# Altium integrated library Temperature_Sensors.IntLib: 1 symbol
Pins are listed as number, name and electrical type; pins without a type are passive.

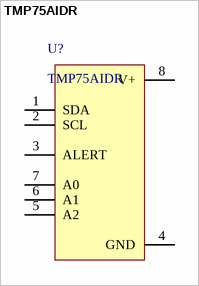
[diagram p0: symbol TMP75AIDR]

## TMP75AIDR
designator U?
1C digital temperature sensor, I2C/SMBus in industry standard LM75 form factor 8-SOIC -40 to 125; Manufacturer: Texas Instruments; Manufacturer Lifecycle Status: ACTIVE; Accuracy: 1.5%; Interface: 2-Wire, I2C, SMBus; Max Junction Temperature (Tj): 150°C; Max Supply Voltage: 5.5V; Min Supply Voltage: 2.7V; Nominal Supply Current: 410µA; Number of Bits: 12; Operating Supply Current: 85µA; Output Current: 3mA; Output Voltage: 400mV; Quiescent Current: 50µA; Resolution: 1.5B; Supplier: DigiKey; Supplier Part Number: 296-17838-1-ND; Manufacturer Part Number: TMP75AIDR; RoHS: Compliant; Category: Temperature and Humidity Sensors; Stock: 14412; Pricing: 1=0,82, 5=0,716, 10=0,68, 25=0,6356, 50=0,6054, 100=0,5779, 500=0,52264, 1000=0,5021 (USD); Ambient Temperature Range High: 125°C; Case/Package: SOIC; Contact Plating: Gold; Height: 1.75mm; Lead Free: Lead Free; Length: 4.9mm; Lifecycle Status: Production; Max Operating Temperature: 125°C; Max Supply Voltage (DC): 5.5V; Min Operating Temperature: -40°C; Min Supply Voltage (DC): 2.7V; Mounting Technology: Surface Mount; Pins: 8; Output Type: Digital; Packaging: Cut Tape; Radiation Hardening: No; REACH SVHC: No; Schedule B: 8542390000, 8542390000|8542390000|8542390000|8542390000|8542390000; Termination: SMD/SMT; Thickness: 1.58mm; Weight: 75.891673mg; Width: 3.91mm; ComponentLink1URL: https://octopart.com:443/opatz8j6/c1?t=tKo3c__LaH3tCV-7qFebeO0R4CrQzKfGAPHQrZf1ItA9pNCVme2MTHqP_iuIB8kVfXV9i36Q6tGLRcP0iaBJ-zehy2rC5rFVKBIjgkgIRdXPXaMP47Caff1K6DSTGpvHlPTS3b7VynqyBxd-zYsYUVzz8ItEYmgo9XcTBf9C9PrFTkF1-WvUDI9WcaoIHw36VGt-FQSijf8NUa46fg22CC-MpPQjtDrqRFPY5KpRveT8L1POi_xLq5-oa1UnvAsdDbxSjHLZQgQG98AOExJcxDinUZpFdydasWn7TcaSIIr51iXdHCA94Jixn-FB4DUj9AFfXv68CNRhFxDnz84EBlcOJYlyCvjWjuXKj-dyup23ZJMNdcMqvSWU2tMxWjY_5w&src-supplier=Texas+Instruments; ComponentLink1Description: https://octopart.com:443/opatz8j6/c1?t=tKo3c__LaH3tCV-7qFebeO0R4CrQzKfGAPHQrZf1ItA9pNCVme2MTHqP_iuIB8kVfXV9i36Q6tGLRcP0iaBJ-zehy2rC5rFVKBIjgkgIRdXPXaMP47Caff1K6DSTGpvHlPTS3b7VynqyBxd-zYsYUVzz8ItEYmgo9XcTBf9C9PrFTkF1-WvUDI9WcaoIHw36VGt-FQSijf8NUa46fg22CC-MpPQjtDrqRFPY5KpRveT8L1POi_xLq5-oa1UnvAsdDbxSjHLZQgQG98AOExJcxDinUZpFdydasWn7TcaSIIr51iXdHCA94Jixn-FB4DUj9AFfXv68CNRhFxDnz84EBlcOJYlyCvjWjuXKj-dyup23ZJMNdcMqvSWU2tMxWjY_5w&src-supplier=Texas+Instruments; ComponentLink2URL: https://datasheet.octopart.com:443/TMP75AIDR-Texas-Instruments-datasheet-41218099.pdf?src-supplier=Texas+Instruments; ComponentLink2Description: https://datasheet.octopart.com:443/TMP75AIDR-Texas-Instruments-datasheet-41218099.pdf?src-supplier=Texas+Instruments; ComponentLink3URL: https://datasheet.octopart.com:443/TMP75AIDR-Texas-Instruments-datasheet-38877415.pdf?src-supplier=Texas+Instruments; ComponentLink3Description: https://datasheet.octopart.com:443/TMP75AIDR-Texas-Instruments-datasheet-38877415.pdf?src-supplier=Texas+Instruments; ComponentLink4URL: https://datasheet.octopart.com:443/TMP75AIDR-Texas-Instruments-datasheet-10253671.pdf?src-supplier=Texas+Instruments; ComponentLink4Description: https://datasheet.octopart.com:443/TMP75AIDR-Texas-Instruments-datasheet-10253671.pdf?src-supplier=Texas+Instruments; ComponentLink5URL: https://sigma.octopart.com:443/49249642/technical_drawing/Texas-Instruments-TMP75AIDR.pdf?src-supplier=Texas+Instruments; ComponentLink5Description: https://sigma.octopart.com:443/49249642/technical_drawing/Texas-Instruments-TMP75AIDR.pdf?src-supplier=Texas+Instruments; ComponentLink6URL: https://datasheet.octopart.com:443/TMP75AIDR-Texas-Instruments-datasheet-149513.pdf?src-supplier=Texas+Instruments; ComponentLink6Description: https://datasheet.octopart.com:443/TMP75AIDR-Texas-Instruments-datasheet-149513.pdf?src-supplier=Texas+Instruments; ComponentLink7URL: https://datasheet.octopart.com:443/TMP75AIDR-Texas-Instruments-datasheet-150455026.pdf?src-supplier=Upverter; ComponentLink7Description: https://datasheet.octopart.com:443/TMP75AIDR-Texas-Instruments-datasheet-150455026.pdf?src-supplier=Upverter; ComponentLink8URL: https://datasheet.octopart.com:443/TMP75AIDR-Texas-Instruments-datasheet-149512.pdf?src-supplier=Mouser; ComponentLink8Description: https://datasheet.octopart.com:443/TMP75AIDR-Texas-Instruments-datasheet-149512.pdf?src-supplier=Mouser; ComponentLink9URL: https://datasheet.octopart.com:443/TMP75AIDR-Texas-Instruments-datasheet-13535012.pdf?src-supplier=element14+APAC; ComponentLink9Description: https://datasheet.octopart.com:443/TMP75AIDR-Texas-Instruments-datasheet-13535012.pdf?src-supplier=element14+APAC; ComponentLink10URL: https://datasheet.octopart.com:443/TMP75AIDR-Texas-Instruments-datasheet-11537007.pdf?src-supplier=element14+APAC; ComponentLink10Description: https://datasheet.octopart.com:443/TMP75AIDR-Texas-Instruments-datasheet-11537007.pdf?src-supplier=element14+APAC; ComponentLink11URL: https://datasheet.octopart.com:443/TMP75AIDR-Texas-Instruments-datasheet-62336639.pdf?src-supplier=element14+APAC; ComponentLink11Description: https://datasheet.octopart.com:443/TMP75AIDR-Texas-Instruments-datasheet-62336639.pdf?src-supplier=element14+APAC; ComponentLink12URL: https://datasheet.octopart.com:443/TMP75AIDR-Texas-Instruments-datasheet-62088963.pdf?src-supplier=element14+APAC; ComponentLink12Description: https://datasheet.octopart.com:443/TMP75AIDR-Texas-Instruments-datasheet-62088963.pdf?src-supplier=element14+APAC; ComponentLink13URL: https://datasheet.octopart.com:443/TMP75AIDR-Texas-Instruments-datasheet-28360622.pdf?src-supplier=element14+APAC; ComponentLink13Description: https://datasheet.octopart.com:443/TMP75AIDR-Texas-Instruments-datasheet-28360622.pdf?src-supplier=element14+APAC; ComponentLink14URL: https://datasheet.octopart.com:443/TMP75AIDR-Texas-Instruments-datasheet-101363787.pdf?src-supplier=Newark; ComponentLink14Description: https://datasheet.octopart.com:443/TMP75AIDR-Texas-Instruments-datasheet-101363787.pdf?src-supplier=Newark; ComponentLink15URL: https://datasheet.octopart.com:443/TMP75AIDR-Texas-Instruments-datasheet-21262013.pdf?src-supplier=Newark; ComponentLink15Description: https://datasheet.octopart.com:443/TMP75AIDR-Texas-Instruments-datasheet-21262013.pdf?src-supplier=Newark; ComponentLink16URL: https://datasheet.octopart.com:443/TMP75AIDR-Texas-Instruments-datasheet-100480387.pdf?src-supplier=Newark; ComponentLink16Description: https://datasheet.octopart.com:443/TMP75AIDR-Texas-Instruments-datasheet-100480387.pdf?src-supplier=Newark; ComponentLink17URL: https://datasheet.octopart.com:443/TMP75AIDR-Texas-Instruments-datasheet-31953.pdf?src-supplier=Newark; ComponentLink17Description: https://datasheet.octopart.com:443/TMP75AIDR-Texas-Instruments-datasheet-31953.pdf?src-supplier=Newark; ComponentLink18URL: https://datasheet.octopart.com:443/TMP75AIDR-Texas-Instruments-datasheet-165804655.pdf?src-supplier=LCSC; ComponentLink18Description: https://datasheet.octopart.com:443/TMP75AIDR-Texas-Instruments-datasheet-165804655.pdf?src-supplier=LCSC; ComponentLink19URL: https://datasheet.octopart.com:443/TMP75AIDR-Texas-Instruments-datasheet-159117859.pdf?src-supplier=LCSC; ComponentLink19Description: https://datasheet.octopart.com:443/TMP75AIDR-Texas-Instruments-datasheet-159117859.pdf?src-supplier=LCSC; ComponentLink20URL: https://datasheet.octopart.com:443/TMP75AIDR-Texas-Instruments-datasheet-140571746.pdf?src-supplier=Arrow.cn; ComponentLink20Description: https://datasheet.octopart.com:443/TMP75AIDR-Texas-Instruments-datasheet-140571746.pdf?src-supplier=Arrow.cn; ComponentLink21URL: https://datasheet.octopart.com:443/TMP75AIDR-Texas-Instruments-datasheet-14160447.pdf?src-supplier=iiiC; ComponentLink21Description: https://datasheet.octopart.com:443/TMP75AIDR-Texas-Instruments-datasheet-14160447.pdf?src-supplier=iiiC; ComponentLink22URL: https://datasheet.octopart.com:443/TMP75AIDR-Texas-Instruments-datasheet-11548933.pdf?src-supplier=Arrow+Electronics; ComponentLink22Description: https://datasheet.octopart.com:443/TMP75AIDR-Texas-Instruments-datasheet-11548933.pdf?src-supplier=Arrow+Electronics; ComponentLink23URL: https://datasheet.octopart.com:443/TMP75AIDR-Texas-Instruments-datasheet-127913.pdf?src-supplier=DigiKey; ComponentLink23Description: https://datasheet.octopart.com:443/TMP75AIDR-Texas-Instruments-datasheet-127913.pdf?src-supplier=DigiKey; ComponentLink24URL: https://datasheet.octopart.com:443/TMP75AIDR-Texas-Instruments-datasheet-5312311.pdf?src-supplier=Farnell; ComponentLink24Description: https://datasheet.octopart.com:443/TMP75AIDR-Texas-Instruments-datasheet-5312311.pdf?src-supplier=Farnell; ComponentLink25URL: http://sigma.octopart.com:80/reach_statement/Texas-Instruments-company-64.pdf?src-supplier=Compliance+Statements; ComponentLink25Description: http://sigma.octopart.com:80/reach_statement/Texas-Instruments-company-64.pdf?src-supplier=Compliance+Statements; ComponentLink26URL: http://sigma.octopart.com:80/conflict_mineral_statement/Texas-Instruments-company-63.pdf?src-supplier=Compliance+Statements; ComponentLink26Description: http://sigma.octopart.com:80/conflict_mineral_statement/Texas-Instruments-company-63.pdf?src-supplier=Compliance+Statements
footprint SOIC127P600X175-8N (SOIC, 8-Leads, Body 4,90x3,90mm, Pitch 1,27mm, IPC Medium Density)
pins: 1 SDA, 2 SCL, 3 ALERT, 4 GND, 5 A2, 6 A1, 7 A0, 8 V+